# Altium schematic symbol library LT3094EMSETRPBF.SchLib: 1 symbol
Pins are listed as number, name and electrical type; pins without a type are passive.

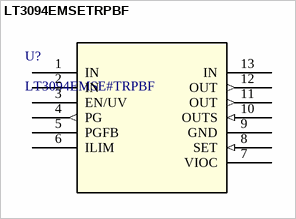
[diagram p0: symbol LT3094EMSETRPBF]

## LT3094EMSETRPBF
designator U?, comment LT3094EMSE#TRPBF
âˆ’20V, 500mA, Ultralow Noise, Ultrahigh PSRR Negative Linear Regulator; Manufacturer_Name: Analog Devices Inc; Copyright: Copyright (C) 2025 Ultra Librarian. All rights reserved.; Manufacturer_Part_Number: LT3094EMSE#TRPBF; RefDes: RefDes; Type: Type
footprint MSE_05-08-1666_ADI
pins: 1 IN (power), 2 IN (power), 3 EN/UV, 4 PG (out), 5 PGFB, 6 ILIM, 7 VIOC (power), 8 SET (in), 9 GND (power), 10 OUTS (in), 11 OUT (out), 12 OUT (out), 13 IN (power)